# Altium schematic symbol library Verdex.SchLib: 2 symbols
Pins are listed as number, name and electrical type; pins without a type are passive.

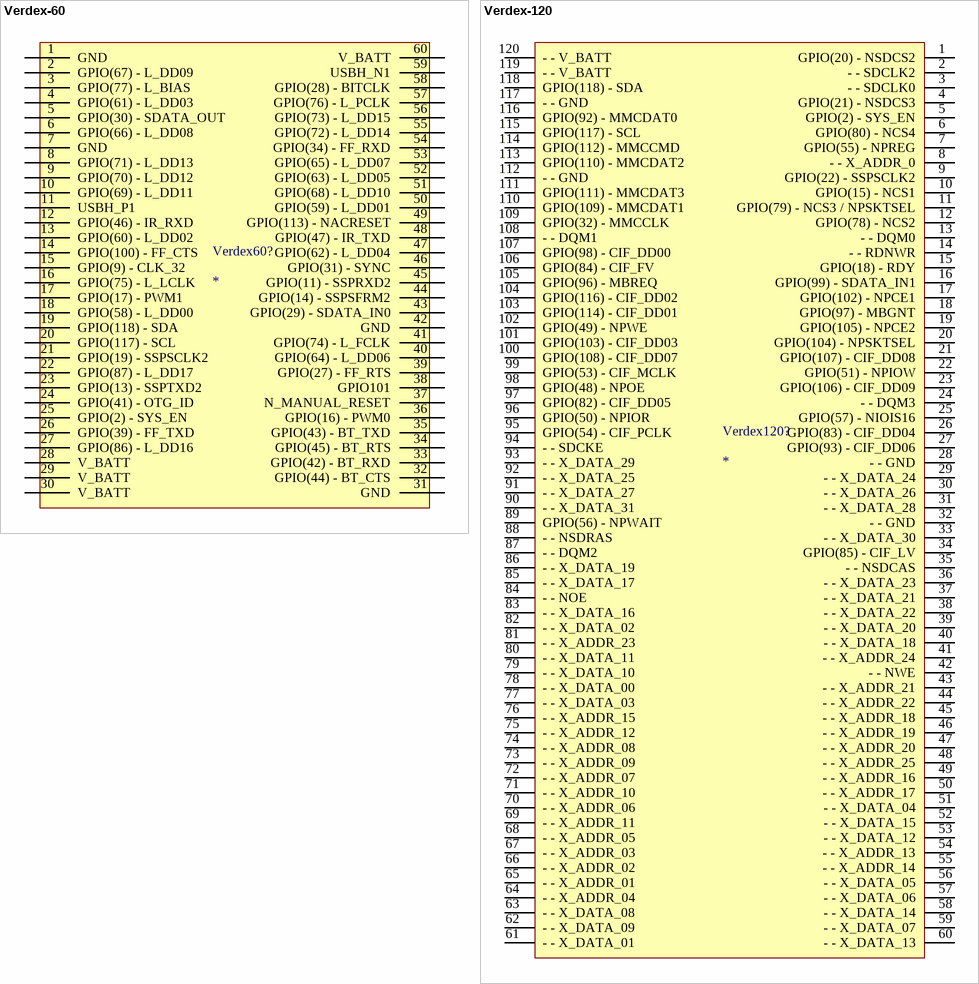
[diagram p0: symbols Verdex-60 to Verdex-120]

## Verdex-60
designator Verdex60?
Verdex 60-Pin Side
footprint 60-Pin Side
pins: 1 GND, 2 GPIO(67) - L_DD09, 3 GPIO(77) - L_BIAS, 4 GPIO(61) - L_DD03, 5 GPIO(30) - SDATA_OUT, 6 GPIO(66) - L_DD08, 7 GND, 8 GPIO(71) - L_DD13, 9 GPIO(70) - L_DD12, 10 GPIO(69) - L_DD11, 11 USBH_P1, 12 GPIO(46) - IR_RXD, 13 GPIO(60) - L_DD02, 14 GPIO(100) - FF_CTS, 15 GPIO(9) - CLK_32, 16 GPIO(75) - L_LCLK, 17 GPIO(17) - PWM1, 18 GPIO(58) - L_DD00, 19 GPIO(118) - SDA, 20 GPIO(117) - SCL, 21 GPIO(19) - SSPSCLK2, 22 GPIO(87) - L_DD17, 23 GPIO(13) - SSPTXD2, 24 GPIO(41) - OTG_ID, 25 GPIO(2) - SYS_EN, 26 GPIO(39) - FF_TXD, 27 GPIO(86) - L_DD16, 28 V_BATT, 29 V_BATT, 30 V_BATT, 31 GND, 32 GPIO(44) - BT_CTS, 33 GPIO(42) - BT_RXD, 34 GPIO(45) - BT_RTS, 35 GPIO(43) - BT_TXD, 36 GPIO(16) - PWM0, 37 N_MANUAL_RESET, 38 GPIO101, 39 GPIO(27) - FF_RTS, 40 GPIO(64) - L_DD06, 41 GPIO(74) - L_FCLK, 42 GND, 43 GPIO(29) - SDATA_IN0, 44 GPIO(14) - SSPSFRM2, 45 GPIO(11) - SSPRXD2, 46 GPIO(31) - SYNC, 47 GPIO(62) - L_DD04, 48 GPIO(47) - IR_TXD, 49 GPIO(113) - NACRESET, 50 GPIO(59) - L_DD01, 51 GPIO(68) - L_DD10, 52 GPIO(63) - L_DD05, 53 GPIO(65) - L_DD07, 54 GPIO(34) - FF_RXD, 55 GPIO(72) - L_DD14, 56 GPIO(73) - L_DD15, 57 GPIO(76) - L_PCLK, 58 GPIO(28) - BITCLK, 59 USBH_N1, 60 V_BATT

## Verdex-120
designator Verdex120?
Verdex 120-Pin Side
footprint 120-Pin Side
pins: 1 GPIO(20) - NSDCS2, 2 - - SDCLK2, 3 - - SDCLK0, 4 GPIO(21) - NSDCS3, 5 GPIO(2) - SYS_EN, 6 GPIO(80) - NCS4, 7 GPIO(55) - NPREG, 8 - - X_ADDR_0, 9 GPIO(22) - SSPSCLK2, 10 GPIO(15) - NCS1, 11 GPIO(79) - NCS3 / NPSKTSEL, 12 GPIO(78) - NCS2, 13 - - DQM0, 14 - - RDNWR, 15 GPIO(18) - RDY, 16 GPIO(99) - SDATA_IN1, 17 GPIO(102) - NPCE1, 18 GPIO(97) - MBGNT, 19 GPIO(105) - NPCE2, 20 GPIO(104) - NPSKTSEL, 21 GPIO(107) - CIF_DD08, 22 GPIO(51) - NPIOW, 23 GPIO(106) - CIF_DD09, 24 - - DQM3, 25 GPIO(57) - NIOIS16, 26 GPIO(83) - CIF_DD04, 27 GPIO(93) - CIF_DD06, 28 - - GND, 29 - - X_DATA_24, 30 - - X_DATA_26, 31 - - X_DATA_28, 32 - - GND, 33 - - X_DATA_30, 34 GPIO(85) - CIF_LV, 35 - - NSDCAS, 36 - - X_DATA_23, 37 - - X_DATA_21, 38 - - X_DATA_22, 39 - - X_DATA_20, 40 - - X_DATA_18, 41 - - X_ADDR_24, 42 - - NWE, 43 - - X_ADDR_21, 44 - - X_ADDR_22, 45 - - X_ADDR_18, 46 - - X_ADDR_19, 47 - - X_ADDR_20, 48 - - X_ADDR_25, 49 - - X_ADDR_16, 50 - - X_ADDR_17, 51 - - X_DATA_04, 52 - - X_DATA_15, 53 - - X_DATA_12, 54 - - X_ADDR_13, 55 - - X_ADDR_14, 56 - - X_DATA_05, 57 - - X_DATA_06, 58 - - X_DATA_14, 59 - - X_DATA_07, 60 - - X_DATA_13, 61 - - X_DATA_01, 62 - - X_DATA_09, 63 - - X_DATA_08, 64 - - X_ADDR_04, 65 - - X_ADDR_01, 66 - - X_ADDR_02, 67 - - X_ADDR_03, 68 - - X_ADDR_05, 69 - - X_ADDR_11, 70 - - X_ADDR_06, 71 - - X_ADDR_10, 72 - - X_ADDR_07, 73 - - X_ADDR_09, 74 - - X_ADDR_08, 75 - - X_ADDR_12, 76 - - X_ADDR_15, 77 - - X_DATA_03, 78 - - X_DATA_00, 79 - - X_DATA_10, 80 - - X_DATA_11, 81 - - X_ADDR_23, 82 - - X_DATA_02, 83 - - X_DATA_16, 84 - - NOE, 85 - - X_DATA_17, 86 - - X_DATA_19, 87 - - DQM2, 88 - - NSDRAS, 89 GPIO(56) - NPWAIT, 90 - - X_DATA_31, 91 - - X_DATA_27, 92 - - X_DATA_25, 93 - - X_DATA_29, 94 - - SDCKE, 95 GPIO(54) - CIF_PCLK, 96 GPIO(50) - NPIOR, 97 GPIO(82) - CIF_DD05, 98 GPIO(48) - NPOE, 99 GPIO(53) - CIF_MCLK, 100 GPIO(108) - CIF_DD07, 101 GPIO(103) - CIF_DD03, 102 GPIO(49) - NPWE, 103 GPIO(114) - CIF_DD01, 104 GPIO(116) - CIF_DD02, 105 GPIO(96) - MBREQ, 106 GPIO(84) - CIF_FV, 107 GPIO(98) - CIF_DD00, 108 - - DQM1, 109 GPIO(32) - MMCCLK, 110 GPIO(109) - MMCDAT1, 111 GPIO(111) - MMCDAT3, 112 - - GND, 113 GPIO(110) - MMCDAT2, 114 GPIO(112) - MMCCMD, 115 GPIO(117) - SCL, 116 GPIO(92) - MMCDAT0, 117 - - GND, 118 GPIO(118) - SDA, 119 - - V_BATT, 120 - - V_BATT